# Altium footprint library IDC2.54-H40C.PcbLib: 1 footprints
Each footprint in its own frame and in the unit in brackets; x right, y up, seen from the top. Pads: shape width x height; smd on the part's side, far side on the other; paste and mask are expansions set on the pad; w line width, h text height; cw(c..) or ccw(c..) is an arc to the next point about the centre after c.
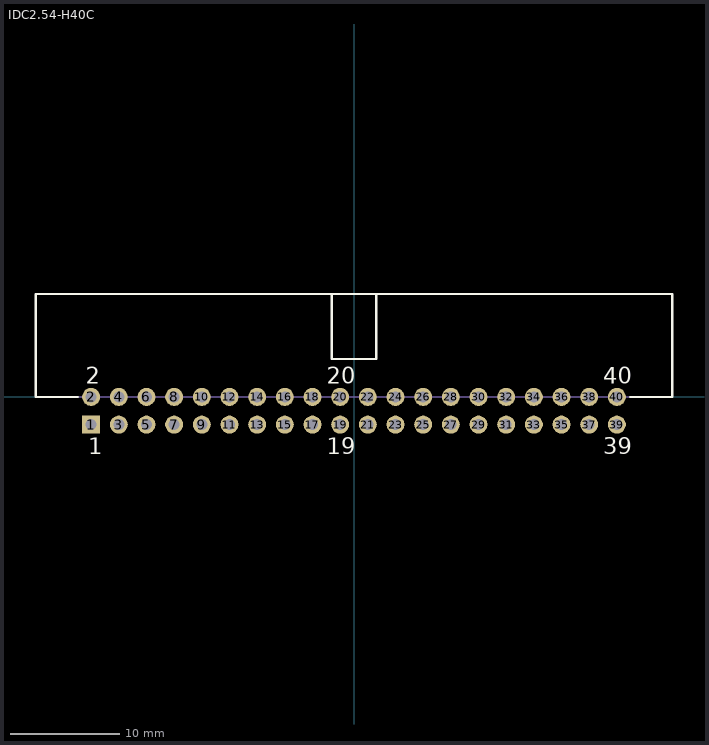
[diagram p0: the footprint, top view; thin cyan lines are the x and y axes]

## IDC2.54-H40C [mm] "Connector; IDC, Low Profile Male Header, Thru-Hole; 40 Position; Right Angle; Pitch 2.54 mm; Body 58.42 x 8.9 x 9.2 mm (LxWxH)"
height 9.2
pads (40):
  rect 1.65x1.65 hole 1: 1(-24.13,-2.54)
  round 1.65 hole 1: 2(-24.13,0) 3(-21.59,-2.54) 4(-21.59,0) 5(-19.05,-2.54) 6(-19.05,0) 7(-16.51,-2.54) 8(-16.51,0) 9(-13.97,-2.54) 10(-13.97,0) 11(-11.43,-2.54) 12(-11.43,0) 13(-8.89,-2.54) 14(-8.89,0) 15(-6.35,-2.54) 16(-6.35,0) 17(-3.81,-2.54) 18(-3.81,0) 19(-1.27,-2.54) 20(-1.27,0) 21(1.27,-2.54) 22(1.27,0) 23(3.81,-2.54) 24(3.81,0) 25(6.35,-2.54) 26(6.35,0) 27(8.89,-2.54) 28(8.89,0) 29(11.43,-2.54) 30(11.43,0) 31(13.97,-2.54) 32(13.97,0) 33(16.51,-2.54) 34(16.51,0) 35(19.05,-2.54) 36(19.05,0) 37(21.59,-2.54) 38(21.59,0) 39(24.13,-2.54) 40(24.13,0)
Top Overlay:
  lines w0.2: -25.355,0 -29.21,0 -29.21,9.45 29.21,9.45 29.21,0 25.355,0 ; -2.05,9.45 -2.05,3.48 2.05,3.48 2.05,9.45
  text "19" at -2.52,-5.24 h1.5
  text "20" at -2.52,1.2 h1.5
  text "2" at -24.63,1.2 h1.5
  text "1" at -24.38,-5.24 h1.5
  text "40" at 22.88,1.2 h1.5
  text "39" at 22.88,-5.24 h1.5
Mechanical 13:
  lines w0.1: -29.21,0 -29.21,9.45 29.21,9.45 29.21,0 -29.21,0
3D body: height 9.2, standoff 0, extent -29.21,0 29.21,9.45